# EAGLE library part 68HC908QTXXX (library nitron)
68HC908QTxxx Nitron Flash Microcontroller
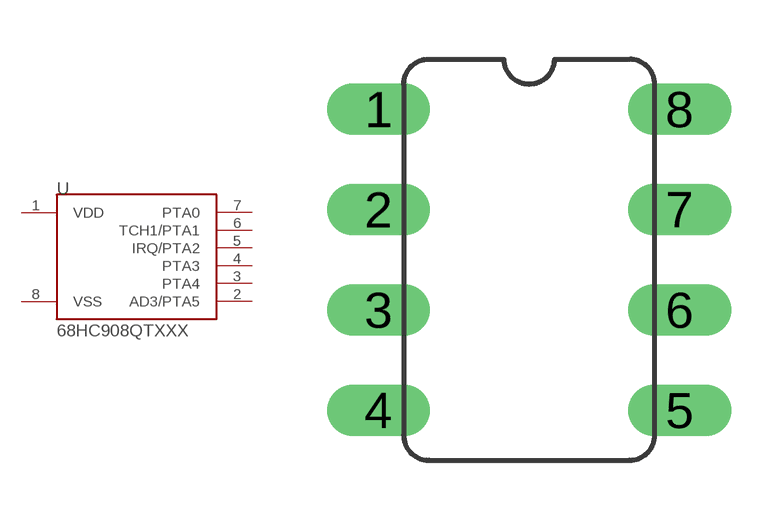
[diagram p0: symbol with the pads of PDIP-8; footprint PDIP-8]

Designator prefix -

## 68HC908QTXXX  [PDIP-8]
1  VDD  sup
2  AD3/PTA5
3  PTA4
4  PTA3
5  IRQ/PTA2
6  TCH1/PTA1
7  PTA0
8  VSS  sup

## Footprint PDIP-8 (pad centres in mm)
PDIP-8
drill 0.8 long: 1 -3.81,3.81; 2 -3.81,1.27; 3 -3.81,-1.27; 4 -3.81,-3.81; 5 3.81,-3.81; 6 3.81,-1.27; 7 3.81,1.27; 8 3.81,3.81